# Altium footprint library 叠加式文件柜V04.PcbLib: 39 footprints (part 2 of 3)
Each footprint in its own frame and in the unit in brackets; x right, y up, seen from the top. Pads: shape width x height; smd on the part's side, far side on the other; paste and mask are expansions set on the pad; w line width, h text height; cw(c..) or ccw(c..) is an arc to the next point about the centre after c.
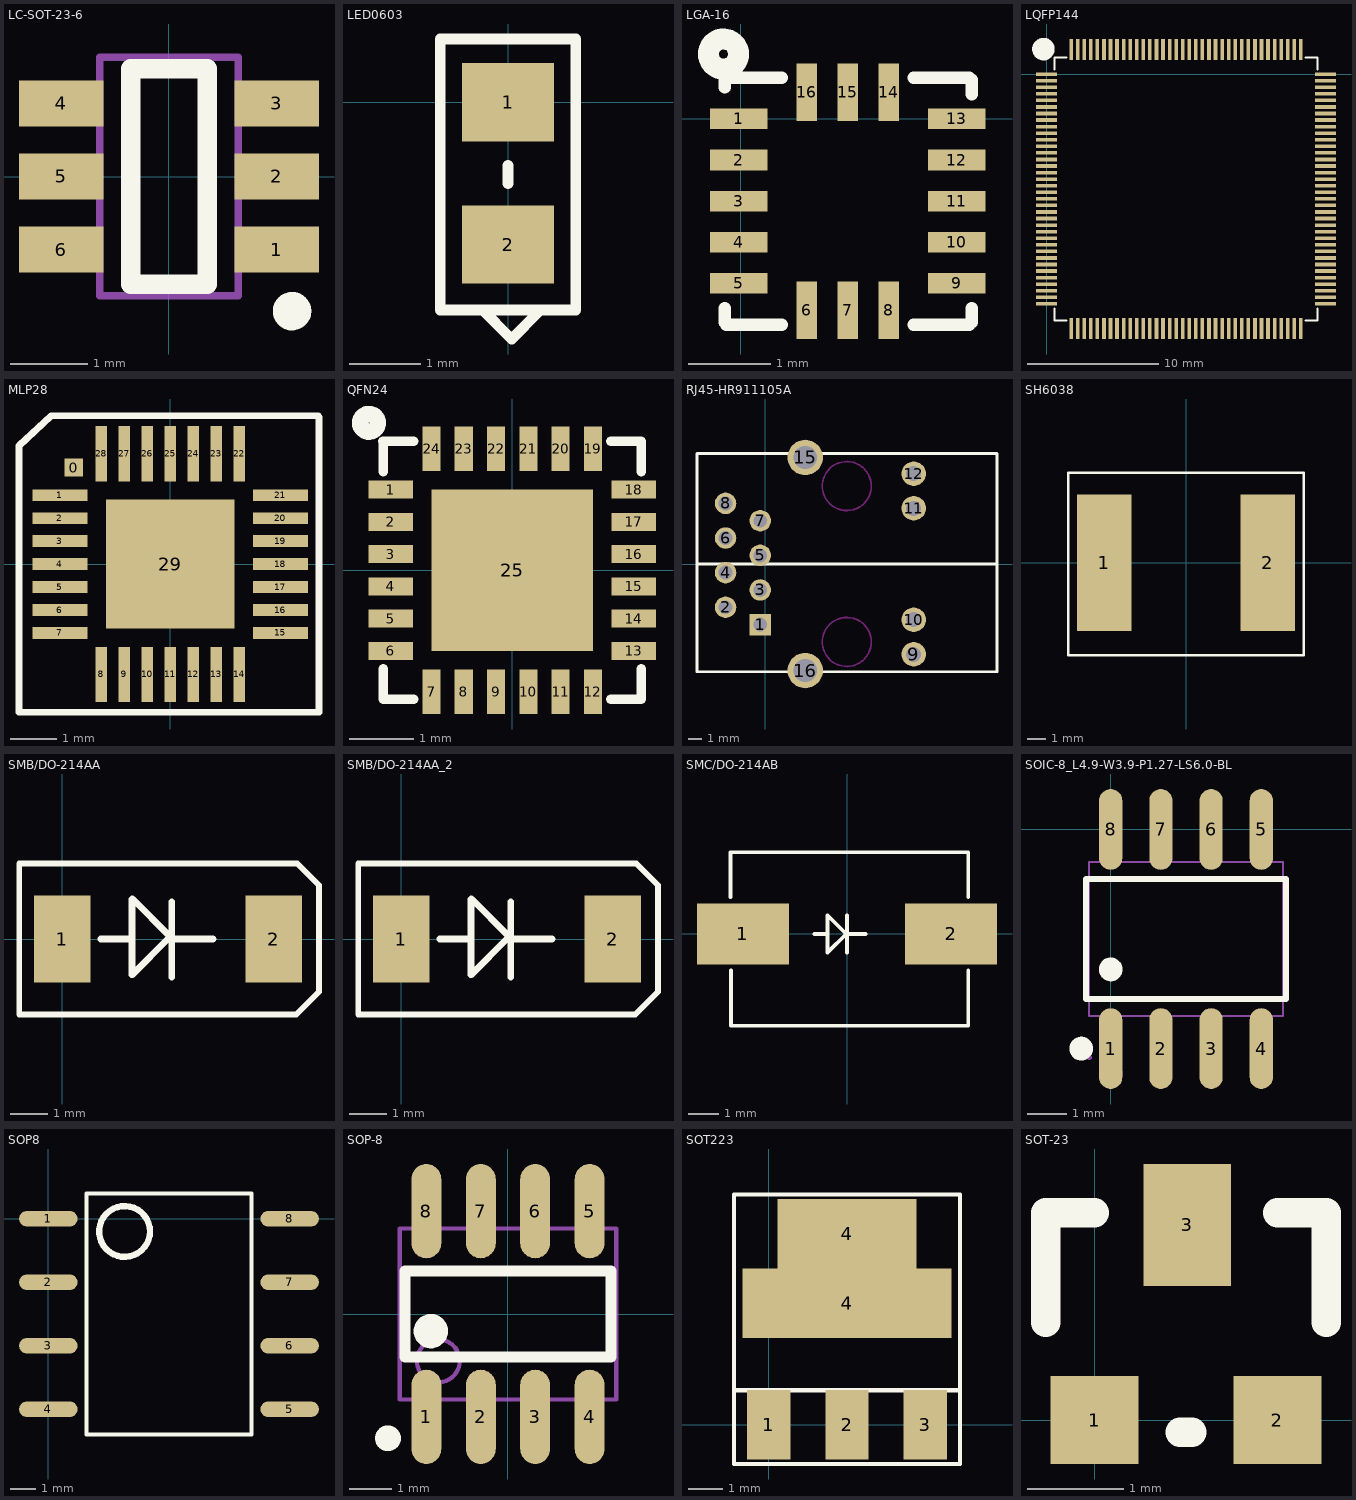
[diagram p1: the footprints below, top view; thin cyan lines are the x and y axes]

## LC-SOT-23-6 [mm]
height 1.5
pads (6):
  rect 1.1x0.6 smd: 1(1.4,-0.95) 2(1.4,0) 3(1.4,0.95) 4(-1.4,0.95) 5(-1.4,0) 6(-1.4,-0.95)
Top Overlay:
  circle w0.25: c1.6,-1.75 r0.125
  lines w0.254: -0.5,-1.4 -0.5,1.4 0.5,1.4 0.5,-1.4 -0.5,-1.4
Mechanical 13:
  lines w0.1: -0.9,-1.55 -0.9,1.55 0.9,1.55 0.9,-1.55 -0.9,-1.55

## LED0603 [mm]
height 1
pads (2):
  rect 1.3x1.1 smd: 1(0,0) 2(0,-2)
Top Overlay:
  lines w0.15: -0.356,-2.921 0.025,-3.302 ; 0,-1.143 0,-0.889 ; 0.051,-3.327 0.432,-2.946 ; -0.95,-2.921 0.95,-2.921 0.95,0.889 -0.95,0.889 -0.95,-2.921
3D body "User Library-LED_0603_R.STEP": height 0.6, standoff 0, extent -0.4,-1.816 0.4,-0.216

## LGA-16 [mm]
height 1.5
pads (16):
  rect 0.7x0.25 smd: 1(-0.024,0) 2(-0.024,-0.5) 3(-0.024,-1) 4(-0.024,-1.5) 5(-0.024,-2) 9(2.626,-2) 10(2.626,-1.5) 11(2.626,-1) 12(2.626,-0.5) 13(2.626,0)
  rect 0.25x0.7 smd: 6(0.801,-2.325) 7(1.301,-2.325) 8(1.801,-2.325) 14(1.801,0.325) 15(1.301,0.325) 16(0.801,0.325)
Top Overlay:
  circle w0.254: c-0.209,0.787 r0.183
  lines w0.15: -0.191,-2.475 -0.191,-2.3 ; -0.191,0.381 -0.191,0.5 0.501,0.5 ; -0.174,-2.5 0.501,-2.5 ; 2.101,-2.5 2.776,-2.5 ; 2.101,0.5 2.776,0.5 ; 2.809,-2.475 2.809,-2.3 ; 2.809,0.3 2.809,0.475

## LQFP144 [mm]
height 1.5
pads (144):
  rect 1.6x0.28 smd: 1(0,0) 2(0,-0.5) 3(0,-1) 4(0,-1.5) 5(0,-2) 6(0,-2.5) 7(0,-3) 8(0,-3.5) 9(0,-4) 10(0,-4.5) 11(0,-5) 12(0,-5.5) 13(0,-6) 14(0,-6.5) 15(0,-7) 16(0,-7.5) 17(0,-8) 18(0,-8.5) 19(0,-9) 20(0,-9.5) 21(0,-10) 22(0,-10.5) 23(0,-11) 24(0,-11.5) 25(0,-12) 26(0,-12.5) 27(0,-13) 28(0,-13.5) 29(0,-14) 30(0,-14.5) 31(0,-15) 32(0,-15.5) 33(0,-16) 34(0,-16.5) 35(0,-17) 36(0,-17.5) 73(21.25,-17.5) 74(21.25,-17) 75(21.25,-16.5) 76(21.25,-16) 77(21.25,-15.5) 78(21.25,-15) 79(21.25,-14.5) 80(21.25,-14) 81(21.25,-13.5) 82(21.25,-13) 83(21.25,-12.5) 84(21.25,-12) 85(21.25,-11.5) 86(21.25,-11) 87(21.25,-10.5) 88(21.25,-10) 89(21.25,-9.5) 90(21.25,-9) 91(21.25,-8.5) 92(21.25,-8) 93(21.25,-7.5) 94(21.25,-7) 95(21.25,-6.5) 96(21.25,-6) 97(21.25,-5.5) 98(21.25,-5) 99(21.25,-4.5) 100(21.25,-4) 101(21.25,-3.5) 102(21.25,-3) 103(21.25,-2.5) 104(21.25,-2) 105(21.25,-1.5) 106(21.25,-1) 107(21.25,-0.5) 108(21.25,0)
  rect 0.28x1.6 smd: 37(1.875,-19.375) 38(2.375,-19.375) 39(2.875,-19.375) 40(3.375,-19.375) 41(3.875,-19.375) 42(4.375,-19.375) 43(4.875,-19.375) 44(5.375,-19.375) 45(5.875,-19.375) 46(6.375,-19.375) 47(6.875,-19.375) 48(7.375,-19.375) 49(7.875,-19.375) 50(8.375,-19.375) 51(8.875,-19.375) 52(9.375,-19.375) 53(9.875,-19.375) 54(10.375,-19.375) 55(10.875,-19.375) 56(11.375,-19.375) 57(11.875,-19.375) 58(12.375,-19.375) 59(12.875,-19.375) 60(13.375,-19.375) 61(13.875,-19.375) 62(14.375,-19.375) 63(14.875,-19.375) 64(15.375,-19.375) 65(15.875,-19.375) 66(16.375,-19.375) 67(16.875,-19.375) 68(17.375,-19.375) 69(17.875,-19.375) 70(18.375,-19.375) 71(18.875,-19.375) 72(19.375,-19.375) 109(19.375,1.875) 110(18.875,1.875) 111(18.375,1.875) 112(17.875,1.875) 113(17.375,1.875) 114(16.875,1.875) 115(16.375,1.875) 116(15.875,1.875) 117(15.375,1.875) 118(14.875,1.875) 119(14.375,1.875) 120(13.875,1.875) 121(13.375,1.875) 122(12.875,1.875) 123(12.375,1.875) 124(11.875,1.875) 125(11.375,1.875) 126(10.875,1.875) 127(10.375,1.875) 128(9.875,1.875) 129(9.375,1.875) 130(8.875,1.875) 131(8.375,1.875) 132(7.875,1.875) 133(7.375,1.875) 134(6.875,1.875) 135(6.375,1.875) 136(5.875,1.875) 137(5.375,1.875) 138(4.875,1.875) 139(4.375,1.875) 140(3.875,1.875) 141(3.375,1.875) 142(2.875,1.875) 143(2.375,1.875) 144(1.875,1.875)
Top Overlay:
  circle w1: c-0.232,1.905 r0.359
  lines w0.15: 0.625,-17.85 0.625,-18.75 1.525,-18.75 ; 0.625,0.35 0.625,1.25 1.525,1.25 ; 19.725,-18.75 20.625,-18.75 20.625,-17.85 ; 19.725,1.25 20.625,1.25 20.625,0.35

## MLP28 [mm]
height 0.5
pads (30):
  rect 0.4x0.4 smd: 0(-2.1,2.1)
  rect 1.2x0.254 smd: 1(-2.4,1.5) 2(-2.4,1) 3(-2.4,0.5) 4(-2.4,0) 5(-2.4,-0.5) 6(-2.4,-1) 7(-2.4,-1.5) 15(2.4,-1.5) 16(2.4,-1) 17(2.4,-0.5) 18(2.4,0) 19(2.4,0.5) 20(2.4,1) 21(2.4,1.5)
  rect 0.254x1.2 smd: 8(-1.5,-2.4) 9(-1,-2.4) 10(-0.5,-2.4) 11(0,-2.4) 12(0.5,-2.4) 13(1,-2.4) 14(1.5,-2.4) 22(1.5,2.4) 23(1,2.4) 24(0.5,2.4) 25(0,2.4) 26(-0.5,2.4) 27(-1,2.4) 28(-1.5,2.4)
  rect 2.8x2.8 smd: 29(0,0)
Top Overlay:
  lines w0.15: 3.213,-3.224 -3.289,-3.224 -3.289,2.576 -2.587,3.227 3.213,3.227 3.239,3.202 3.239,-3.224

## QFN24 [mm]
height 1.5
pads (25):
  rect 0.69x0.28 smd: 1(-1.883,1.25) 2(-1.883,0.75) 3(-1.883,0.25) 4(-1.883,-0.25) 5(-1.883,-0.75) 6(-1.883,-1.25) 13(1.882,-1.25) 14(1.882,-0.75) 15(1.882,-0.25) 16(1.882,0.25) 17(1.882,0.75) 18(1.882,1.25)
  rect 0.28x0.69 smd: 7(-1.25,-1.882) 8(-0.75,-1.882) 9(-0.25,-1.882) 10(0.25,-1.882) 11(0.75,-1.882) 12(1.25,-1.882) 19(1.25,1.882) 20(0.75,1.882) 21(0.25,1.882) 22(-0.25,1.882) 23(-0.75,1.882) 24(-1.25,1.882)
  rect 2.5x2.5 smd: 25(0,0)
Top Overlay:
  circle w0.254: c-2.22,2.286 r0.137
  lines w0.15: -2.007,2 -1.53,2 ; -2,-1.53 -2,-2 -1.53,-2 ; -2,1.53 -2,2 ; 1.53,-2 2,-2 2,-1.53 ; 1.53,2 2,2 2,1.53

## RJ45-HR911105A [mm] "HR911105A"
height 1.5
pads (14):
  rect 1.575x1.575 hole 1.016: 1(-0.38,-4.445)
  round 1.575 hole 1.016: 2(-2.92,-3.175) 3(-0.38,-1.905) 4(-2.92,-0.635) 5(-0.38,0.635) 6(-2.92,1.905) 7(-0.38,3.175) 8(-2.92,4.445)
  round 1.8 hole 1.1: 9(10.87,-6.625) 10(10.87,-4.085) 11(10.87,4.085) 12(10.87,6.625)
  round 2.6 hole 1.7: 15(2.92,7.815) 16(2.92,-7.815)
Top Overlay:
  lines w0.2: -5.013,0 16.87,0
  lines w0.203: -5.017,-7.91 -5.011,-7.904 ; -5.017,8.092 -5.013,8.096 ; 16.977,-7.904 2.823,-7.904 -5.011,-7.904 ; 16.979,8.096 2.823,8.096 -5.013,8.096 ; 16.983,-7.91 16.983,8.092 ; -5.013,8.096 -5.013,-7.902 -5.011,-7.904
Keep-Out Layer:
  circle w0.127: c5.97,-5.715 r1.798
  circle w0.127: c5.97,5.715 r1.798

## SH6038 [mm]
height 4
pads (2):
  rect 3x7.5 smd: 1(-4.5,0) 2(4.5,0)
Top Overlay:
  lines w0.127: -6.477,-5.08 6.477,-5.08 6.477,4.953 -6.477,4.953 -6.477,-5.08

## SMB/DO-214AA [mm]
height 2.5
pads (2):
  rect 1.5x2.3 smd: 1(0,0) 2(5.6,0)
Top Overlay:
  lines w0.15: -1.143,-2 -1.143,2 5.817,2 6.222,2 6.8,1.422 6.8,-1.397 6.197,-2 5.817,-2 -1.143,-2
  lines w0.178: 1.845,1.051 1.845,-0.949 2.845,0.051 ; 1.854,1.067 2.854,0.067 ; 2.896,-1.009 2.896,0.991
  lines w0.18: 1.016,0 1.799,0 ; 2.9,0 3.988,0

## SMB/DO-214AA_2 [mm]
pads (2):
  rect 1.5x2.3 smd: 1(0,0) 2(5.6,0)
Top Overlay:
  lines w0.15: -1.143,-2 -1.143,2 5.817,2 6.222,2 6.8,1.422 6.8,-1.397 6.197,-2 5.817,-2 -1.143,-2
  lines w0.178: 1.845,1.051 1.845,-0.949 2.845,0.051 ; 1.854,1.067 2.854,0.067 ; 2.896,-1.009 2.896,0.991
  lines w0.18: 1.016,0 1.799,0 ; 2.9,0 3.988,0

## SMC/DO-214AB [mm]
height 2.2
pads (2):
  rect 3x2 smd: 1(-3.4,0) 2(3.4,0)
Top Overlay:
  lines w0.127: -3.81,1.2 -3.81,2.667 3.962,2.667 3.962,1.2 ; -3.785,-1.2 -3.785,-2.997 3.962,-2.997 3.962,-1.2 ; -1.067,0 -0.711,0 ; 0,-0.61 0,0.61 ; 0.61,0 -0.025,0 ; -0.025,0 -0.635,0.61 -0.635,-0.61 -0.025,0

## SOIC-8_L4.9-W3.9-P1.27-LS6.0-BL [mm]
pads (8):
  oval 0.588x2.045 smd: 1(0,-5.545) 2(1.27,-5.545) 3(2.54,-5.545) 4(3.81,-5.545) 5(3.81,0) 6(2.54,0) 7(1.27,0) 8(0,0)
Top Overlay:
  circle w0.3: c0,-3.542 r0.15
  circle w0.3: c-0.747,-5.545 r0.15
  lines w0.152: -0.621,-4.294 -0.621,-1.251 4.431,-1.251 4.431,-4.294 -0.621,-4.294
Mechanical 6:
  circle w0.3: c0,-6.172 r0.15
Mechanical 15:
  region: -0.485,-5.772 -0.486,-5.748 -0.521,-5.714 -0.57,-5.714 -0.605,-5.748 -0.605,-5.772 -0.605,-5.797 -0.57,-5.831 -0.521,-5.831 -0.486,-5.797 -0.485,-5.772
  region: -0.21,-5.772 -0.21,-4.937 0.21,-4.937 0.21,-5.772
  region: -0.21,-4.947 -0.21,-4.712 0.21,-4.712 0.21,-4.947
  region: 1.06,-5.772 1.06,-4.937 1.48,-4.937 1.48,-5.772
  region: 1.06,-4.947 1.06,-4.712 1.48,-4.712 1.48,-4.947
  region: 2.33,-5.772 2.33,-4.937 2.75,-4.937 2.75,-5.772
  region: 2.33,-4.947 2.33,-4.712 2.75,-4.712 2.75,-4.947
  region: 3.6,-5.772 3.6,-4.937 4.02,-4.937 4.02,-5.772
  region: 3.6,-4.947 3.6,-4.712 4.02,-4.712 4.02,-4.947
  region: -0.21,0.228 -0.21,-0.607 0.21,-0.607 0.21,0.228
  region: -0.21,-0.597 -0.21,-0.832 0.21,-0.832 0.21,-0.597
  region: 1.06,0.228 1.06,-0.607 1.48,-0.607 1.48,0.228
  region: 1.06,-0.597 1.06,-0.832 1.48,-0.832 1.48,-0.597
  region: 2.33,0.228 2.33,-0.607 2.75,-0.607 2.75,0.228
  region: 2.33,-0.597 2.33,-0.832 2.75,-0.832 2.75,-0.597
  region: 3.6,0.228 3.6,-0.607 4.02,-0.607 4.02,0.228
  region: 3.6,-0.597 3.6,-0.832 4.02,-0.832 4.02,-0.597
  lines w0.051: -0.545,-4.722 -0.545,-0.822 4.355,-0.822 4.355,-4.722 -0.545,-4.722

## SOP8 [mil]
height 20
pads (8):
  oval 92.5x24 smd: 1(0,0) 2(0,-100) 3(0,-200) 4(0,-300) 5(380,-300) 6(380,-200) 7(380,-100) 8(380,0)
Top Overlay:
  circle w10: c120,-20 r40
  lines w6: 60,-340 60,40 320,40 320,-340 60,-340

## SOP-8 [mm]
pads (8):
  oval 0.7x2.2 smd: 1(-1.905,-2.4) 2(-0.635,-2.4) 3(0.635,-2.4) 4(1.905,-2.4) 5(1.905,2.4) 6(0.635,2.4) 7(-0.635,2.4) 8(-1.905,2.4)
Top Overlay:
  circle w0.4: c-1.8,-0.4 r0.2
  circle w0.3: c-2.8,-2.9 r0.15
  lines w0.254: -2.4,-1 -2.4,1 2.4,1 2.4,-1 -2.4,-1
Mechanical 13:
  circle w0.1: c-1.625,-1.095 r0.5
  lines w0.1: -2.525,-1.995 -2.525,1.995 2.525,1.995 2.525,-1.995 -2.525,-1.995
3D body "User Library-SOIC-8-150.STEP": height 1.75, standoff 0, extent -2.5,-3.1 2.5,3.1

## SOT223 [mil]
height 59.06
pads (5):
  rect 50x80 smd: 1(0,0) 2(90,0) 3(180,0)
  rect 240x80 smd: 4(90,140)
  rect 160x80 smd: 4(90,220)
Top Overlay:
  lines w5: -40,40 220,40 ; -40,-45 -40,265 220,265 220,-45 -40,-45

## SOT-23 [mil]
height 98.43
pads (3):
  rect 36x36 smd: 1(0,0) 2(75,0)
  rect 36x50 smd: 3(38,80)
Top Overlay:
  lines w12: -20,40 -20,85 0,85 ; 35,-5 40,-5 ; 75,85 95,85 95,40